# Altium footprint library ECE Lib3.PcbLib: 39 footprints (part 1 of 3)
Each footprint in its own frame and in the unit in brackets; x right, y up, seen from the top. Pads: shape width x height; smd on the part's side, far side on the other; paste and mask are expansions set on the pad; w line width, h text height; cw(c..) or ccw(c..) is an arc to the next point about the centre after c.
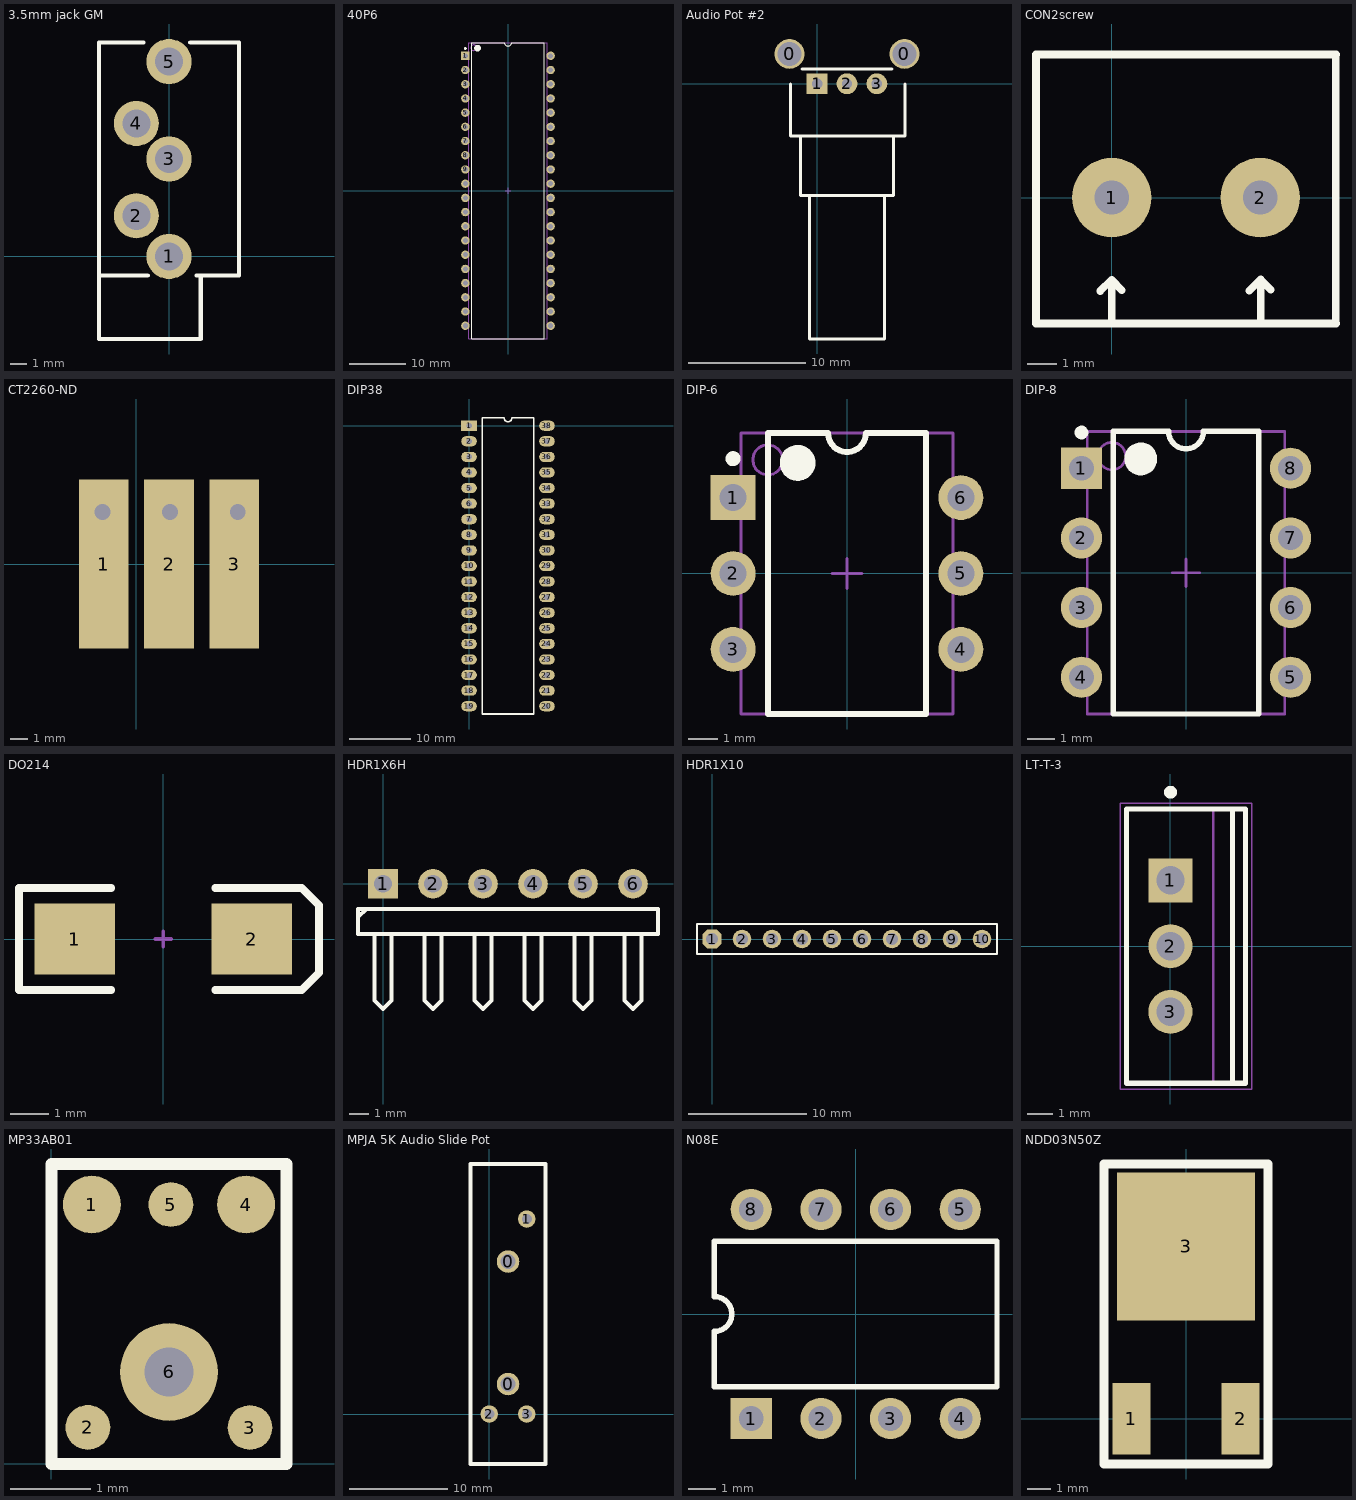
[diagram p0: the footprints below, top view; thin cyan lines are the x and y axes]

## 3.5mm jack GM [mil]
pads (5):
  round 106.5 hole 66.5: 1(0,0) 2(-77,96) 3(0,230) 4(-77,314) 5(0,460)
Top Overlay:
  lines w10: -60,505 -165,505 -165,-45 ; -50,-45 -165,-45 ; 50,505 165,505 165,-45 65,-45 ; 75,-45 75,-195 -165,-195 -165,-45

## 40P6 [mm]
pads (40):
  rect 1.5x1.5 hole 0.9: 1(-7.62,24.13)
  round 1.5 hole 0.9: 2(-7.62,21.59) 3(-7.62,19.05) 4(-7.62,16.51) 5(-7.62,13.97) 6(-7.62,11.43) 7(-7.62,8.89) 8(-7.62,6.35) 9(-7.62,3.81) 10(-7.62,1.27) 11(-7.62,-1.27) 12(-7.62,-3.81) 13(-7.62,-6.35) 14(-7.62,-8.89) 15(-7.62,-11.43) 16(-7.62,-13.97) 17(-7.62,-16.51) 18(-7.62,-19.05) 19(-7.62,-21.59) 20(-7.62,-24.13) 21(7.62,-24.13) 22(7.62,-21.59) 23(7.62,-19.05) 24(7.62,-16.51) 25(7.62,-13.97) 26(7.62,-11.43) 27(7.62,-8.89) 28(7.62,-6.35) 29(7.62,-3.81) 30(7.62,-1.27) 31(7.62,1.27) 32(7.62,3.81) 33(7.62,6.35) 34(7.62,8.89) 35(7.62,11.43) 36(7.62,13.97) 37(7.62,16.51) 38(7.62,19.05) 39(7.62,21.59) 40(7.62,24.13)
Top Overlay:
  circle w0.25: c-7.62,25.43 r0.125
  circle w0.6: c-5.45,25.5 r0.3
  lines w0.2: -6.45,-26.5 -6.45,26.5 -0.635,26.5 ccw(c0,26.5) 0.635,26.5 6.45,26.5 6.45,-26.5 -6.45,-26.5
Mechanical 13:
  circle w0.1: c-6.15,25.575 r0.5
  lines w0.1: -7.05,-26.475 -7.05,26.475 7.05,26.475 7.05,-26.475 -7.05,-26.475
Mechanical 15:
  lines w0.1: -0.5,0 0.5,0 ; 0,-0.5 0,0.5
3D body: height 4.83, standoff 0, extent -7.05,-26.475 7.05,26.475

## Audio Pot #2 [mil]
pads (5):
  round 100 hole 80: 0(-92.5,100) 0(292.5,100)
  rect 70x70 hole 35: 1(0,0)
  round 70 hole 35: 2(100,0) 3(200,0)
Top Overlay:
  lines w10: -90,0 -90,-175 295,-175 295,0 ; -55,-175 -55,-275 -55,-375 255,-375 255,-175 ; -50,50 250,50 ; -25,-375 -25,-855 225,-855 225,-375

## CON2screw [mil]
pads (2):
  round 105 hole 45: 1(0,0) 2(196,0)
Top Overlay:
  lines w10: -100,-166.14 296.06,-166.14 ; -100,-166 -100,189 296.06,188.98 ; 0,-166.14 0,-108.27 ; 13.39,-122.05 0,-108.66 0,-108.27 ; 196.46,-165.75 196.46,-107.87 ; 209.84,-121.65 196.46,-108.27 196.46,-107.87 ; 296,-166 296,189 ; 0,-108.27 -14.96,-123.23 0,-108.27 ; 196.46,-107.87 181.5,-122.83 196.46,-107.87

## CT2260-ND [mil]
pads (3):
  rect 110x375 smd: 1(-72.5,0) 2(72.5,0) 3(217.5,0)
via 225,115 diameter 65 hole 35
via 75,115 diameter 65 hole 35
via -75,115 diameter 65 hole 35

## DIP38 [mil]
pads (38):
  rect 100x65 hole 35: 1(0,0)
  oval 100x65 hole 35: 2(0,-100) 3(0,-200) 4(0,-300) 5(0,-400) 6(0,-500) 7(0,-600) 8(0,-700) 9(0,-800) 10(0,-900) 11(0,-1000) 12(0,-1100) 13(0,-1200) 14(0,-1300) 15(0,-1400) 16(0,-1500) 17(0,-1600) 18(0,-1700) 19(0,-1800) 20(500,-1800) 21(500,-1700) 22(500,-1600) 23(500,-1500) 24(500,-1400) 25(500,-1300) 26(500,-1200) 27(500,-1100) 28(500,-1000) 29(500,-900) 30(500,-800) 31(500,-700) 32(500,-600) 33(500,-500) 34(500,-400) 35(500,-300) 36(500,-200) 37(500,-100) 38(500,0)
Top Overlay:
  lines w10: 85,-1850 85,50 225,50 ccw(c250,50) 275,50 415,50 415,-1850 85,-1850

## DIP-6 [mm]
pads (6):
  rect 1.5x1.5 hole 0.9: 1(-3.81,2.54)
  round 1.5 hole 0.9: 2(-3.81,0) 3(-3.81,-2.54) 4(3.81,-2.54) 5(3.81,0) 6(3.81,2.54)
Top Overlay:
  circle w0.25: c-3.81,3.84 r0.125
  circle w0.6: c-1.65,3.7 r0.3
  lines w0.2: -2.65,-4.7 -2.65,4.7 -0.635,4.7 ccw(c0,4.7) 0.635,4.7 2.65,4.7 2.65,-4.7 -2.65,-4.7
Mechanical 13:
  circle w0.1: c-2.65,3.8 r0.5
  lines w0.1: -3.55,-4.7 -3.55,4.7 3.55,4.7 3.55,-4.7 -3.55,-4.7
Mechanical 15:
  lines w0.1: -0.5,0 0.5,0 ; 0,-0.5 0,0.5
3D body: height 5.46, standoff 0, extent -3.55,-4.7 3.55,4.7

## DIP-8 [mm]
pads (8):
  rect 1.5x1.5 hole 0.9: 1(-3.81,3.81)
  round 1.5 hole 0.9: 2(-3.81,1.27) 3(-3.81,-1.27) 4(-3.81,-3.81) 5(3.81,-3.81) 6(3.81,-1.27) 7(3.81,1.27) 8(3.81,3.81)
Top Overlay:
  circle w0.6: c-1.65,4.15 r0.3
  circle w0.25: c-3.81,5.11 r0.125
  lines w0.2: -2.65,-5.15 2.65,-5.15 2.65,5.15 0.635,5.15 cw(c0,5.15) -0.635,5.15 -2.65,5.15 -2.65,-5.15
Mechanical 13:
  circle w0.1: c-2.7,4.25 r0.5
  lines w0.1: -3.6,-5.15 3.6,-5.15 3.6,5.15 -3.6,5.15 -3.6,-5.15
Mechanical 15:
  lines w0.1: -0.5,0 0.5,0 ; 0,-0.5 0,0.5
3D body: height 5.08, standoff 0, extent -3.6,-5.15 3.6,5.15

## DO214 [mm]
pads (2):
  rect 2.1x1.85 smd: 1(-2.3,0) 2(2.3,0)
Top Overlay:
  lines w0.2: -1.35,-1.325 -3.75,-1.325 -3.75,1.325 -1.35,1.325 ; 1.35,-1.325 3.6,-1.325 4.05,-0.875 4.05,0.875 3.6,1.325 1.35,1.325
Mechanical 1:
  lines w0.1: -0.2,0 0.2,0 ; 0,-0.2 0,0.2

## HDR1X6H [mm]
pads (6):
  rect 1.5x1.5 hole 0.9: 1(0,0)
  round 1.5 hole 0.9: 2(2.54,0) 3(5.08,0) 4(7.62,0) 5(10.16,0) 6(12.7,0)
Top Overlay:
  lines w0.2: -1.27,-1.693 -0.847,-1.27 ; -0.423,-2.54 -0.423,-5.927 0,-6.35 0.423,-5.927 0.423,-2.54 ; 2.117,-2.54 2.117,-5.927 2.54,-6.35 2.963,-5.927 2.963,-2.54 ; 4.657,-2.54 4.657,-5.927 5.08,-6.35 5.503,-5.927 5.503,-2.54 ; 7.197,-2.54 7.197,-5.927 7.62,-6.35 8.043,-5.927 8.043,-2.54 ; 9.737,-2.54 9.737,-5.927 10.16,-6.35 10.583,-5.927 10.583,-2.54 ; 12.277,-2.54 12.277,-5.927 12.7,-6.35 13.123,-5.927 13.123,-2.54 ; -1.27,-2.54 -1.27,-1.27 13.97,-1.27 13.97,-2.54 -1.27,-2.54

## HDR1X10 [mil]
pads (10):
  oct 62x62 hole 39.4: 1(0,0)
  round 62 hole 39.4: 2(100,0) 3(200,0) 4(300,0) 5(400,0) 6(500,0) 7(600,0) 8(700,0) 9(800,0) 10(900,0)
Top Overlay:
  lines w8: -50,-50 -50,50 25,50 950,50 950,-50 -50,-50

## LT-T-3 [mm]
pads (3):
  rect 1.7x1.7 hole 1.1: 1(0,2.54)
  round 1.7 hole 1.1: 2(0,0) 3(0,-2.54)
Top Overlay:
  circle w0.25: c0,5.95 r0.125
  lines w0.2: 2.4,-5.3 2.4,5.3 ; -1.7,-5.3 -1.7,5.3 2.9,5.3 2.9,-5.3 -1.7,-5.3
Mechanical 13:
  lines w0.1: 1.65,-5.275 1.65,5.275 ; -1.7,-5.275 2.9,-5.275 2.9,5.275 -1.7,5.275 -1.7,-5.275
Mechanical 15:
  lines w0.05: -1.95,-5.525 3.15,-5.525 3.15,5.525 -1.95,5.525 -1.95,-5.525
  lines w0.1: -0.5,0 0.5,0 ; 0,-0.5 0,0.5
3D body: height 22.15, standoff 21.18, extent 1.65,-5.1 2.9,5.1
3D body: height 19.63, standoff 19.25, extent 1.65,-5.1 2.9,-1.925
3D body: height 19.63, standoff 19.25, extent 1.65,1.925 2.9,5.1
3D body: height 19.25, standoff 18.87, extent 1.65,-5.1 2.9,-1.925
3D body: height 19.25, standoff 18.87, extent 1.65,1.925 2.9,5.1
3D body: height 19.99, standoff 19.63, extent 1.65,-5.1 2.9,-1.888
3D body: height 19.99, standoff 19.63, extent 1.65,1.888 2.9,5.1
3D body: height 18.88, standoff 18.51, extent 1.65,-5.1 2.9,-1.888
3D body: height 18.88, standoff 18.51, extent 1.65,1.888 2.9,5.1
3D body: height 20.32, standoff 19.99, extent 1.65,-5.1 2.9,-1.778
3D body: height 20.32, standoff 19.99, extent 1.65,1.778 2.9,5.1
3D body: height 18.52, standoff 18.18, extent 1.65,-5.1 2.9,-1.778
3D body: height 18.52, standoff 18.18, extent 1.65,1.778 2.9,5.1
3D body: height 20.62, standoff 20.32, extent 1.65,-5.1 2.9,-1.601
3D body: height 20.62, standoff 20.32, extent 1.65,1.601 2.9,5.1
3D body: height 18.19, standoff 17.89, extent 1.65,-5.1 2.9,-1.601
3D body: height 18.19, standoff 17.89, extent 1.65,1.601 2.9,5.1
3D body: height 20.86, standoff 20.61, extent 1.65,-5.1 2.9,-1.361
3D body: height 20.86, standoff 20.61, extent 1.65,1.361 2.9,5.1
3D body: height 17.89, standoff 17.65, extent 1.65,-5.1 2.9,-1.361
3D body: height 17.89, standoff 17.65, extent 1.65,1.361 2.9,5.1
3D body: height 21.03, standoff 20.85, extent 1.65,-5.1 2.9,-1.069
3D body: height 21.03, standoff 20.85, extent 1.65,1.069 2.9,5.1
3D body: height 17.65, standoff 17.47, extent 1.65,-5.1 2.9,-1.069
3D body: height 17.65, standoff 17.47, extent 1.65,1.069 2.9,5.1
3D body: height 21.14, standoff 21.03, extent 1.65,-5.1 2.9,-0.737
3D body: height 21.14, standoff 21.03, extent 1.65,0.737 2.9,5.1
3D body: height 17.48, standoff 17.36, extent 1.65,-5.1 2.9,-0.737
3D body: height 17.48, standoff 17.36, extent 1.65,0.737 2.9,5.1
3D body: height 21.18, standoff 21.14, extent 1.65,-5.1 2.9,-0.376
3D body: height 21.18, standoff 21.14, extent 1.65,0.376 2.9,5.1
3D body: height 17.37, standoff 17.33, extent 1.65,-5.1 2.9,-0.376
3D body: height 17.37, standoff 17.33, extent 1.65,0.376 2.9,5.1
3D body: height 17.33, standoff 15.8, extent 1.65,-5.1 2.9,5.1
3D body: height 15.8, standoff 5.53, extent -1.7,-5.275 2.9,5.275
3D body: height 0, standoff -1.6, extent -0.23,-2.96 0.23,-2.12
3D body: height 5.53, standoff 0, extent -0.23,-3.175 0.23,-1.905
3D body: height 0, standoff -1.6, extent -0.23,-0.42 0.23,0.42
3D body: height 5.53, standoff 0, extent -0.23,-0.635 0.23,0.635
3D body: height 0, standoff -1.6, extent -0.23,2.12 0.23,2.96
3D body: height 5.53, standoff 0, extent -0.23,1.905 0.23,3.175

## MP33AB01 [mil]
pads (6):
  round 28.5 smd: 1(20,128) 4(96.1,128)
  round 22.1 smd: 2(18.05,18.05) 3(98,18) 5(59,128)
  round 48.2 hole 24.1: 6(58.05,45.4)
Top Overlay:
  lines w6: 0,0 116.1,0 116.1,148 0,148 0,0
  text "." at -21,123 h60

## MPJA 5K Audio Slide Pot [mil]
pads (5):
  round 90 hole 60: 0(75,120) 0(75,610)
  round 70 hole 40: 1(150,780) 2(0,0) 3(150,0)
Top Overlay:
  lines w15: -75,-200 225,-200 225,1000 -75,1000 -75,-200

## N08E [mm]
pads (8):
  rect 1.5x1.5 hole 0.9: 1(-3.81,-3.81)
  round 1.5 hole 0.9: 2(-1.27,-3.81) 3(1.27,-3.81) 4(3.81,-3.81) 5(3.81,3.81) 6(1.27,3.81) 7(-1.27,3.81) 8(-3.81,3.81)
Top Overlay:
  lines w0.2: -5.15,-2.65 5.15,-2.65 5.15,2.65 -5.15,2.65 -5.15,0.635 cw(c-5.15,0) -5.15,-0.635 -5.15,-2.65

## NDD03N50Z [mil]
pads (3):
  rect 63x118 smd: 1(-90,0) 2(90,0)
  rect 228x244 smd: 3(0,284)
Top Overlay:
  lines w15: -135,-75 135,-75 135,420 -135,420 -135,-75